# Altium schematic symbol library Header.SchLib: 26 symbols
Pins are listed as number, name and electrical type; pins without a type are passive.

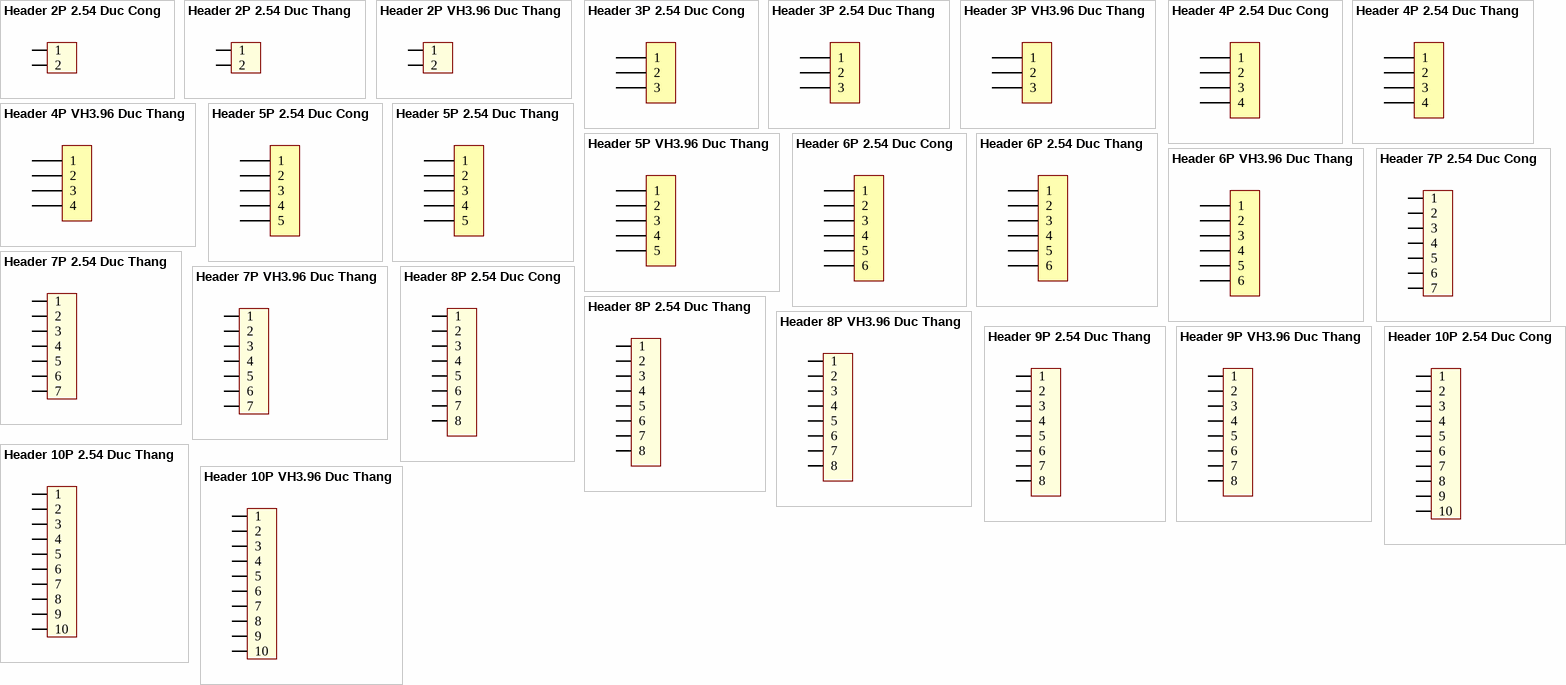
[diagram p0: symbols Header 2P 2.54 Duc Cong to Header 10P VH3.96 Duc Thang]

## Header 2P 2.54 Duc Cong
designator H?
Cắm; Ten_Linh_Kien: Header 2P XH2.54-2P Đực Cong; Don_Vi: Con; Ma_Hang: MH002852; Chung_Loai: Cắm
footprint Header 2P DC 2.54
pins: 1, 2

## Header 2P 2.54 Duc Thang
designator H?
Cắm; Ten_Linh_Kien: Header 2P XH2.54-2P Đực Thẳng; Don_Vi: Con; Ma_Hang: MH001283; Chung_Loai: Cắm
footprint XH2.54M-2
pins: 1, 2

## Header 2P VH3.96 Duc Thang
designator H?
Cắm; Ten_Linh_Kien: Header 2P XH2.54-2P Đực Thẳng; Don_Vi: Con; Ma_Hang: MH001283; Chung_Loai: Cắm
footprint VH3.96M-2
pins: 1, 2

## Header 3P 2.54 Duc Cong
designator H?
Cắm; Ten_Linh_Kien: Header 3P XH2.54-3P Đực Cong; Don_Vi: Con; Ma_Hang: MH001302; Chung_Loai: Cắm
footprint Header 3P DC 2.54
pins: 1, 2, 3

## Header 3P 2.54 Duc Thang
designator H?
Cắm; Ten_Linh_Kien: Header 3P XH2.54-3P Đực Thẳng; Don_Vi: Con; Ma_Hang: MH001292; Chung_Loai: Cắm
footprint XH2.54M-3
pins: 1, 2, 3

## Header 3P VH3.96 Duc Thang
designator H?
Cắm; Ten_Linh_Kien: Header 3P XH2.54-3P Đực Thẳng; Don_Vi: Con; Ma_Hang: MH001292; Chung_Loai: Cắm
footprint VH3.96M-3
pins: 1, 2, 3

## Header 4P 2.54 Duc Cong
designator H?
Cắm; Ten_Linh_Kien: Header 4P XH2.54-4P Đực Cong; Don_Vi: Con; Ma_Hang: MH001310; Chung_Loai: Cắm
footprint Header 4P DC 2.54
pins: 1, 2, 3, 4

## Header 4P 2.54 Duc Thang
designator H?
Cắm; Ten_Linh_Kien: Header 4P XH2.54-4P Đực Thẳng; Don_Vi: Con; Ma_Hang: MH001285; Chung_Loai: Cắm
footprint XH2.54M-4
pins: 1, 2, 3, 4

## Header 4P VH3.96 Duc Thang
designator H?
Cắm; Ten_Linh_Kien: Header 4P XH2.54-4P Đực Thẳng; Don_Vi: Con; Ma_Hang: MH001285; Chung_Loai: Cắm
footprint VH3.96M-4
pins: 1, 2, 3, 4

## Header 5P 2.54 Duc Cong
designator H?
Cắm; Ten_Linh_Kien: Header 5P XH2.54-5P Đực Cong; Don_Vi: Con; Ma_Hang: MH001308; Chung_Loai: Cắm
footprint Header 5P DC 2.54
pins: 1, 2, 3, 4, 5

## Header 5P 2.54 Duc Thang
designator H?
Cắm; Ten_Linh_Kien: Header 5P XH2.54-5P Đực Thẳng; Don_Vi: Con; Ma_Hang: MH001298; Chung_Loai: Cắm
footprint XH2.54M-5
pins: 1, 2, 3, 4, 5

## Header 5P VH3.96 Duc Thang
designator H?
Cắm; Ten_Linh_Kien: Header 5P XH2.54-5P Đực Thẳng; Don_Vi: Con; Ma_Hang: MH001298; Chung_Loai: Cắm
footprint VH3.96M-5
pins: 1, 2, 3, 4, 5

## Header 6P 2.54 Duc Cong
designator H?
Cắm; Ten_Linh_Kien: Header 6P XH2.54-6P Đực Cong; Don_Vi: Con; Ma_Hang: MH003363; Chung_Loai: Cắm
footprint Header 6P DC 2.54
pins: 1, 2, 3, 4, 5, 6

## Header 6P 2.54 Duc Thang
designator H?
Cắm; Ten_Linh_Kien: Header 6P XH2.54-6P Đực Thẳng; Don_Vi: Con; Ma_Hang: MH001972; Chung_Loai: Cắm
footprint XH2.54M-6
pins: 1, 2, 3, 4, 5, 6

## Header 6P VH3.96 Duc Thang
designator H?
Cắm; Ten_Linh_Kien: Header 6P XH2.54-6P Đực Thẳng; Don_Vi: Con; Ma_Hang: MH001972; Chung_Loai: Cắm
footprint VH3.96M-6
pins: 1, 2, 3, 4, 5, 6

## Header 7P 2.54 Duc Cong
designator H?
Cắm; Ten_Linh_Kien: Header 7P XH2.54-7P Đực Cong; Don_Vi: Con; Ma_Hang: MH004118; Chung_Loai: Cắm
footprint Header 7P DC 2.54
pins: 1, 2, 3, 4, 5, 6, 7

## Header 7P 2.54 Duc Thang
designator H?
Cắm; Ten_Linh_Kien: Header 7P XH2.54-7P Đực Thẳng; Don_Vi: Con; Ma_Hang: MH003369; Chung_Loai: Cắm
footprint XH2.54M-7
pins: 1, 2, 3, 4, 5, 6, 7

## Header 7P VH3.96 Duc Thang
designator H?
Cắm; Ten_Linh_Kien: Header 7P XH2.54-7P Đực Thẳng; Don_Vi: Con; Ma_Hang: MH003369; Chung_Loai: Cắm
footprint VH3.96M-7
pins: 1, 2, 3, 4, 5, 6, 7

## Header 8P 2.54 Duc Cong
designator H?
Cắm; Ten_Linh_Kien: Header 8P XH2.54-8P Đực Cong; Don_Vi: Con; Ma_Hang: MH003367; Chung_Loai: Cắm
footprint Header 8P DC 2.54
pins: 1, 2, 3, 4, 5, 6, 7, 8

## Header 8P 2.54 Duc Thang
designator H?
Cắm; Ten_Linh_Kien: Header 8P XH2.54-8P Đực Thẳng; Don_Vi: Con; Ma_Hang: MH003366; Chung_Loai: Cắm
footprint XH2.54M-8
pins: 1, 2, 3, 4, 5, 6, 7, 8

## Header 8P VH3.96 Duc Thang
designator H?
Cắm; Ten_Linh_Kien: Header 8P XH2.54-8P Đực Thẳng; Don_Vi: Con; Ma_Hang: MH003366; Chung_Loai: Cắm
footprint VH3.96M-8
pins: 1, 2, 3, 4, 5, 6, 7, 8

## Header 9P 2.54 Duc Thang
designator H?
Cắm; Ten_Linh_Kien: Header 8P XH2.54-8P Đực Thẳng; Don_Vi: Con; Ma_Hang: MH003366; Chung_Loai: Cắm
footprint XH2.54M-9
pins: 1, 2, 3, 4, 5, 6, 7, 8

## Header 9P VH3.96 Duc Thang
designator H?
Cắm; Ten_Linh_Kien: Header 8P XH2.54-8P Đực Thẳng; Don_Vi: Con; Ma_Hang: MH003366; Chung_Loai: Cắm
footprint VH3.96M-9
pins: 1, 2, 3, 4, 5, 6, 7, 8

## Header 10P 2.54 Duc Cong
designator H?
Cắm; Ten_Linh_Kien: Header 10P XH2.54-10P Đực Cong; Don_Vi: Con; Ma_Hang: MH007094; Chung_Loai: Cắm
footprint Header 10P DC 2.54
pins: 1, 2, 3, 4, 5, 6, 7, 8, 9, 10

## Header 10P 2.54 Duc Thang
designator H?
Cắm; Ten_Linh_Kien: Header 10P XH2.54-10P Đực Thẳng; Don_Vi: Con; Ma_Hang: MH001286; Chung_Loai: Cắm
footprint XH2.54M-10
pins: 1, 2, 3, 4, 5, 6, 7, 8, 9, 10

## Header 10P VH3.96 Duc Thang
designator H?
Cắm; Ten_Linh_Kien: Header 10P XH2.54-10P Đực Thẳng; Don_Vi: Con; Ma_Hang: MH001286; Chung_Loai: Cắm
footprint VH3.96M-10
pins: 1, 2, 3, 4, 5, 6, 7, 8, 9, 10